# Altium schematic symbol library MOSFET(P-CH, 8V, 5.8A, 35mOhm, SOT-23-3).SchLib: 1 symbol
Pins are listed as number, name and electrical type; pins without a type are passive.

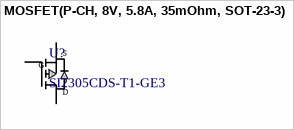
[diagram p0: symbol MOSFET(P-CH, 8V, 5.8A, 35mOhm, SOT-23-3)]

## MOSFET(P-CH, 8V, 5.8A, 35mOhm, SOT-23-3)
designator U?, comment SI2305CDS-T1-GE3
P-CHANNEL 8-V (D-S) MOSFET; Manufacturer: Vishay; Manufacturer_PN: SI2305CDS-T1-GE3; Package: SOT23-3; Datasheet: https://www.vishay.com/docs/64847/si2305cd.pdf; Digikey_Link: https://www.digikey.it/en/products/detail/vishay-siliconix/SI2305CDS-T1-GE3/2622024?s=N4IgTCBcDaIMoEswGYAMBWAwgETgWgBUBGPAcQFFkQBdAXyA
footprint TO-236_VIS
pins: 1 G, 2 S, 3 D